# EAGLE library part ALCHITRY_ELEMENT (library alchitry_elements)
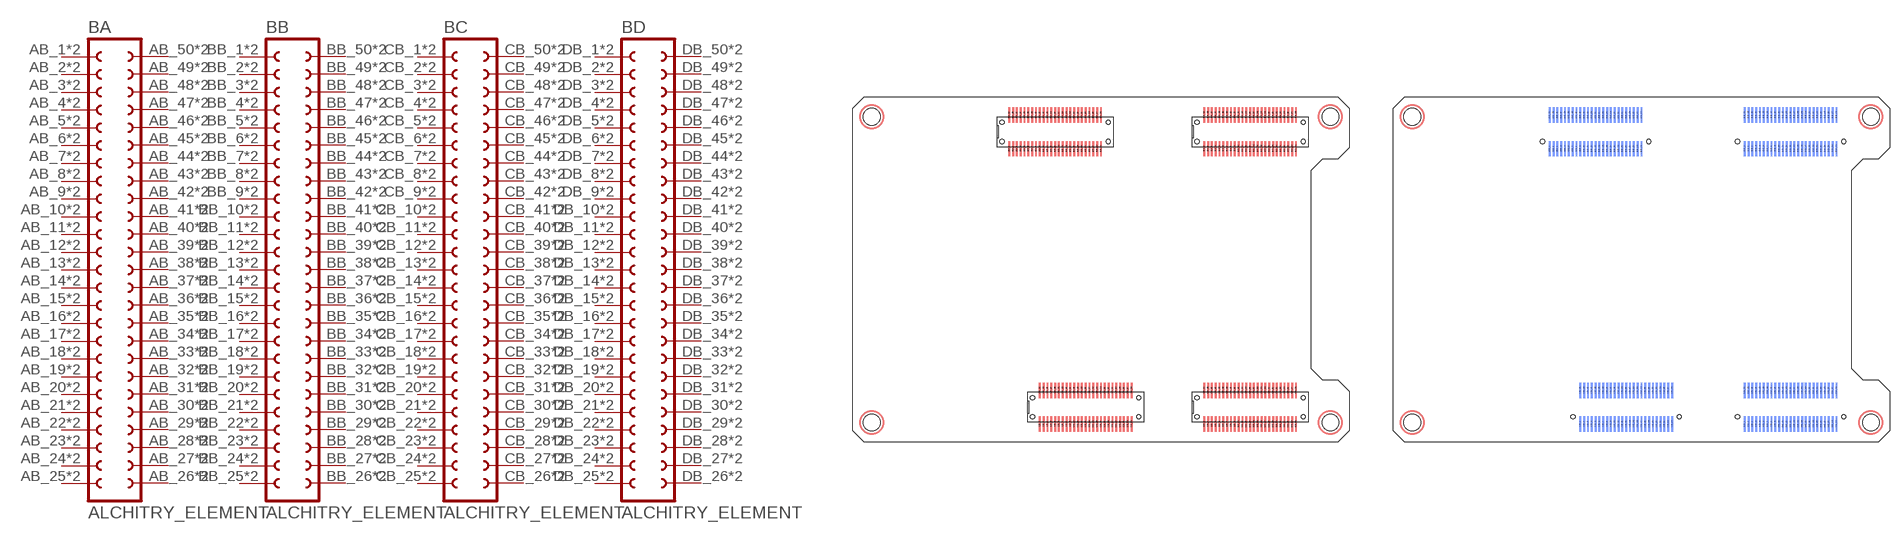
[diagram p0: symbol with the pads of ELEMENT; footprints ELEMENT, ELEMENT_NO_TOP]

Designator prefix B; gates A=FE25-2 B=FE25-2 C=FE25-2 D=FE25-2

## ALCHITRY_ELEMENT  [ELEMENT]
AB_1  A:1  pas
AB_2  A:2  pas
AB_3  A:3  pas
AB_4  A:4  pas
AB_5  A:5  pas
AB_6  A:6  pas
AB_7  A:7  pas
AB_8  A:8  pas
AB_9  A:9  pas
AB_10  A:10  pas
AB_11  A:11  pas
AB_12  A:12  pas
AB_13  A:13  pas
AB_14  A:14  pas
AB_15  A:15  pas
AB_16  A:16  pas
AB_17  A:17  pas
AB_18  A:18  pas
AB_19  A:19  pas
AB_20  A:20  pas
AB_21  A:21  pas
AB_22  A:22  pas
AB_23  A:23  pas
AB_24  A:24  pas
AB_25  A:25  pas
AB_26  A:26  pas
AB_27  A:27  pas
AB_28  A:28  pas
AB_29  A:29  pas
AB_30  A:30  pas
AB_31  A:31  pas
AB_32  A:32  pas
AB_33  A:33  pas
AB_34  A:34  pas
AB_35  A:35  pas
AB_36  A:36  pas
AB_37  A:37  pas
AB_38  A:38  pas
AB_39  A:39  pas
AB_40  A:40  pas
AB_41  A:41  pas
AB_42  A:42  pas
AB_43  A:43  pas
AB_44  A:44  pas
AB_45  A:45  pas
AB_46  A:46  pas
AB_47  A:47  pas
AB_48  A:48  pas
AB_49  A:49  pas
AB_50  A:50  pas
AT_1  A:1  pas
AT_2  A:2  pas
AT_3  A:3  pas
AT_4  A:4  pas
AT_5  A:5  pas
AT_6  A:6  pas
AT_7  A:7  pas
AT_8  A:8  pas
AT_9  A:9  pas
AT_10  A:10  pas
AT_11  A:11  pas
AT_12  A:12  pas
AT_13  A:13  pas
AT_14  A:14  pas
AT_15  A:15  pas
AT_16  A:16  pas
AT_17  A:17  pas
AT_18  A:18  pas
AT_19  A:19  pas
AT_20  A:20  pas
AT_21  A:21  pas
AT_22  A:22  pas
AT_23  A:23  pas
AT_24  A:24  pas
AT_25  A:25  pas
AT_26  A:26  pas
AT_27  A:27  pas
AT_28  A:28  pas
AT_29  A:29  pas
AT_30  A:30  pas
AT_31  A:31  pas
AT_32  A:32  pas
AT_33  A:33  pas
AT_34  A:34  pas
AT_35  A:35  pas
AT_36  A:36  pas
AT_37  A:37  pas
AT_38  A:38  pas
AT_39  A:39  pas
AT_40  A:40  pas
AT_41  A:41  pas
AT_42  A:42  pas
AT_43  A:43  pas
AT_44  A:44  pas
AT_45  A:45  pas
AT_46  A:46  pas
AT_47  A:47  pas
AT_48  A:48  pas
AT_49  A:49  pas
AT_50  A:50  pas
BB_1  B:1  pas
BB_2  B:2  pas
BB_3  B:3  pas
BB_4  B:4  pas
BB_5  B:5  pas
BB_6  B:6  pas
BB_7  B:7  pas
BB_8  B:8  pas
BB_9  B:9  pas
BB_10  B:10  pas
BB_11  B:11  pas
BB_12  B:12  pas
BB_13  B:13  pas
BB_14  B:14  pas
BB_15  B:15  pas
BB_16  B:16  pas
BB_17  B:17  pas
BB_18  B:18  pas
BB_19  B:19  pas
BB_20  B:20  pas
BB_21  B:21  pas
BB_22  B:22  pas
BB_23  B:23  pas
BB_24  B:24  pas
BB_25  B:25  pas
BB_26  B:26  pas
BB_27  B:27  pas
BB_28  B:28  pas
BB_29  B:29  pas
BB_30  B:30  pas
BB_31  B:31  pas
BB_32  B:32  pas
BB_33  B:33  pas
BB_34  B:34  pas
BB_35  B:35  pas
BB_36  B:36  pas
BB_37  B:37  pas
BB_38  B:38  pas
BB_39  B:39  pas
BB_40  B:40  pas
BB_41  B:41  pas
BB_42  B:42  pas
BB_43  B:43  pas
BB_44  B:44  pas
BB_45  B:45  pas
BB_46  B:46  pas
BB_47  B:47  pas
BB_48  B:48  pas
BB_49  B:49  pas
BB_50  B:50  pas
BT_1  B:1  pas
BT_2  B:2  pas
BT_3  B:3  pas
BT_4  B:4  pas
BT_5  B:5  pas
BT_6  B:6  pas
BT_7  B:7  pas
BT_8  B:8  pas
BT_9  B:9  pas
BT_10  B:10  pas
BT_11  B:11  pas
BT_12  B:12  pas
BT_13  B:13  pas
BT_14  B:14  pas
BT_15  B:15  pas
BT_16  B:16  pas
BT_17  B:17  pas
BT_18  B:18  pas
BT_19  B:19  pas
BT_20  B:20  pas
BT_21  B:21  pas
BT_22  B:22  pas
BT_23  B:23  pas
BT_24  B:24  pas
BT_25  B:25  pas
BT_26  B:26  pas
BT_27  B:27  pas
BT_28  B:28  pas
BT_29  B:29  pas
BT_30  B:30  pas
BT_31  B:31  pas
BT_32  B:32  pas
BT_33  B:33  pas
BT_34  B:34  pas
BT_35  B:35  pas
BT_36  B:36  pas
BT_37  B:37  pas
BT_38  B:38  pas
BT_39  B:39  pas
BT_40  B:40  pas
BT_41  B:41  pas
BT_42  B:42  pas
BT_43  B:43  pas
BT_44  B:44  pas
BT_45  B:45  pas
BT_46  B:46  pas
BT_47  B:47  pas
BT_48  B:48  pas
BT_49  B:49  pas
BT_50  B:50  pas
CB_1  C:1  pas
CB_2  C:2  pas
CB_3  C:3  pas
CB_4  C:4  pas
CB_5  C:5  pas
CB_6  C:6  pas
CB_7  C:7  pas
CB_8  C:8  pas
CB_9  C:9  pas
CB_10  C:10  pas
CB_11  C:11  pas
CB_12  C:12  pas
CB_13  C:13  pas
CB_14  C:14  pas
CB_15  C:15  pas
CB_16  C:16  pas
CB_17  C:17  pas
CB_18  C:18  pas
CB_19  C:19  pas
CB_20  C:20  pas
CB_21  C:21  pas
CB_22  C:22  pas
CB_23  C:23  pas
CB_24  C:24  pas
CB_25  C:25  pas
CB_26  C:26  pas
CB_27  C:27  pas
CB_28  C:28  pas
CB_29  C:29  pas
CB_30  C:30  pas
CB_31  C:31  pas
CB_32  C:32  pas
CB_33  C:33  pas
CB_34  C:34  pas
CB_35  C:35  pas
CB_36  C:36  pas
CB_37  C:37  pas
CB_38  C:38  pas
CB_39  C:39  pas
CB_40  C:40  pas
CB_41  C:41  pas
CB_42  C:42  pas
CB_43  C:43  pas
CB_44  C:44  pas
CB_45  C:45  pas
CB_46  C:46  pas
CB_47  C:47  pas
CB_48  C:48  pas
CB_49  C:49  pas
CB_50  C:50  pas
CT_1  C:1  pas
CT_2  C:2  pas
CT_3  C:3  pas
CT_4  C:4  pas
CT_5  C:5  pas
CT_6  C:6  pas
CT_7  C:7  pas
CT_8  C:8  pas
CT_9  C:9  pas
CT_10  C:10  pas
CT_11  C:11  pas
CT_12  C:12  pas
CT_13  C:13  pas
CT_14  C:14  pas
CT_15  C:15  pas
CT_16  C:16  pas
CT_17  C:17  pas
CT_18  C:18  pas
CT_19  C:19  pas
CT_20  C:20  pas
CT_21  C:21  pas
CT_22  C:22  pas
CT_23  C:23  pas
CT_24  C:24  pas
CT_25  C:25  pas
CT_26  C:26  pas
CT_27  C:27  pas
CT_28  C:28  pas
CT_29  C:29  pas
CT_30  C:30  pas
CT_31  C:31  pas
CT_32  C:32  pas
CT_33  C:33  pas
CT_34  C:34  pas
CT_35  C:35  pas
CT_36  C:36  pas
CT_37  C:37  pas
CT_38  C:38  pas
CT_39  C:39  pas
CT_40  C:40  pas
CT_41  C:41  pas
CT_42  C:42  pas
CT_43  C:43  pas
CT_44  C:44  pas
CT_45  C:45  pas
CT_46  C:46  pas
CT_47  C:47  pas
CT_48  C:48  pas
CT_49  C:49  pas
CT_50  C:50  pas
DB_1  D:1  pas
DB_2  D:2  pas
DB_3  D:3  pas
DB_4  D:4  pas
DB_5  D:5  pas
DB_6  D:6  pas
DB_7  D:7  pas
DB_8  D:8  pas
DB_9  D:9  pas
DB_10  D:10  pas
DB_11  D:11  pas
DB_12  D:12  pas
DB_13  D:13  pas
DB_14  D:14  pas
DB_15  D:15  pas
DB_16  D:16  pas
DB_17  D:17  pas
DB_18  D:18  pas
DB_19  D:19  pas
DB_20  D:20  pas
DB_21  D:21  pas
DB_22  D:22  pas
DB_23  D:23  pas
DB_24  D:24  pas
DB_25  D:25  pas
DB_26  D:26  pas
DB_27  D:27  pas
DB_28  D:28  pas
DB_29  D:29  pas
DB_30  D:30  pas
DB_31  D:31  pas
DB_32  D:32  pas
DB_33  D:33  pas
DB_34  D:34  pas
DB_35  D:35  pas
DB_36  D:36  pas
DB_37  D:37  pas
DB_38  D:38  pas
DB_39  D:39  pas
DB_40  D:40  pas
DB_41  D:41  pas
DB_42  D:42  pas
DB_43  D:43  pas
DB_44  D:44  pas
DB_45  D:45  pas
DB_46  D:46  pas
DB_47  D:47  pas
DB_48  D:48  pas
DB_49  D:49  pas
DB_50  D:50  pas
DT_1  D:1  pas
DT_2  D:2  pas
DT_3  D:3  pas
DT_4  D:4  pas
DT_5  D:5  pas
DT_6  D:6  pas
DT_7  D:7  pas
DT_8  D:8  pas
DT_9  D:9  pas
DT_10  D:10  pas
DT_11  D:11  pas
DT_12  D:12  pas
DT_13  D:13  pas
DT_14  D:14  pas
DT_15  D:15  pas
DT_16  D:16  pas
DT_17  D:17  pas
DT_18  D:18  pas
DT_19  D:19  pas
DT_20  D:20  pas
DT_21  D:21  pas
DT_22  D:22  pas
DT_23  D:23  pas
DT_24  D:24  pas
DT_25  D:25  pas
DT_26  D:26  pas
DT_27  D:27  pas
DT_28  D:28  pas
DT_29  D:29  pas
DT_30  D:30  pas
DT_31  D:31  pas
DT_32  D:32  pas
DT_33  D:33  pas
DT_34  D:34  pas
DT_35  D:35  pas
DT_36  D:36  pas
DT_37  D:37  pas
DT_38  D:38  pas
DT_39  D:39  pas
DT_40  D:40  pas
DT_41  D:41  pas
DT_42  D:42  pas
DT_43  D:43  pas
DT_44  D:44  pas
DT_45  D:45  pas
DT_46  D:46  pas
DT_47  D:47  pas
DT_48  D:48  pas
DT_49  D:49  pas
DT_50  D:50  pas

## ALCHITRY_ELEMENTNT  [ELEMENT_NO_TOP]
AB_1  A:1  pas
AB_2  A:2  pas
AB_3  A:3  pas
AB_4  A:4  pas
AB_5  A:5  pas
AB_6  A:6  pas
AB_7  A:7  pas
AB_8  A:8  pas
AB_9  A:9  pas
AB_10  A:10  pas
AB_11  A:11  pas
AB_12  A:12  pas
AB_13  A:13  pas
AB_14  A:14  pas
AB_15  A:15  pas
AB_16  A:16  pas
AB_17  A:17  pas
AB_18  A:18  pas
AB_19  A:19  pas
AB_20  A:20  pas
AB_21  A:21  pas
AB_22  A:22  pas
AB_23  A:23  pas
AB_24  A:24  pas
AB_25  A:25  pas
AB_26  A:26  pas
AB_27  A:27  pas
AB_28  A:28  pas
AB_29  A:29  pas
AB_30  A:30  pas
AB_31  A:31  pas
AB_32  A:32  pas
AB_33  A:33  pas
AB_34  A:34  pas
AB_35  A:35  pas
AB_36  A:36  pas
AB_37  A:37  pas
AB_38  A:38  pas
AB_39  A:39  pas
AB_40  A:40  pas
AB_41  A:41  pas
AB_42  A:42  pas
AB_43  A:43  pas
AB_44  A:44  pas
AB_45  A:45  pas
AB_46  A:46  pas
AB_47  A:47  pas
AB_48  A:48  pas
AB_49  A:49  pas
AB_50  A:50  pas
BB_1  B:1  pas
BB_2  B:2  pas
BB_3  B:3  pas
BB_4  B:4  pas
BB_5  B:5  pas
BB_6  B:6  pas
BB_7  B:7  pas
BB_8  B:8  pas
BB_9  B:9  pas
BB_10  B:10  pas
BB_11  B:11  pas
BB_12  B:12  pas
BB_13  B:13  pas
BB_14  B:14  pas
BB_15  B:15  pas
BB_16  B:16  pas
BB_17  B:17  pas
BB_18  B:18  pas
BB_19  B:19  pas
BB_20  B:20  pas
BB_21  B:21  pas
BB_22  B:22  pas
BB_23  B:23  pas
BB_24  B:24  pas
BB_25  B:25  pas
BB_26  B:26  pas
BB_27  B:27  pas
BB_28  B:28  pas
BB_29  B:29  pas
BB_30  B:30  pas
BB_31  B:31  pas
BB_32  B:32  pas
BB_33  B:33  pas
BB_34  B:34  pas
BB_35  B:35  pas
BB_36  B:36  pas
BB_37  B:37  pas
BB_38  B:38  pas
BB_39  B:39  pas
BB_40  B:40  pas
BB_41  B:41  pas
BB_42  B:42  pas
BB_43  B:43  pas
BB_44  B:44  pas
BB_45  B:45  pas
BB_46  B:46  pas
BB_47  B:47  pas
BB_48  B:48  pas
BB_49  B:49  pas
BB_50  B:50  pas
CB_1  C:1  pas
CB_2  C:2  pas
CB_3  C:3  pas
CB_4  C:4  pas
CB_5  C:5  pas
CB_6  C:6  pas
CB_7  C:7  pas
CB_8  C:8  pas
CB_9  C:9  pas
CB_10  C:10  pas
CB_11  C:11  pas
CB_12  C:12  pas
CB_13  C:13  pas
CB_14  C:14  pas
CB_15  C:15  pas
CB_16  C:16  pas
CB_17  C:17  pas
CB_18  C:18  pas
CB_19  C:19  pas
CB_20  C:20  pas
CB_21  C:21  pas
CB_22  C:22  pas
CB_23  C:23  pas
CB_24  C:24  pas
CB_25  C:25  pas
CB_26  C:26  pas
CB_27  C:27  pas
CB_28  C:28  pas
CB_29  C:29  pas
CB_30  C:30  pas
CB_31  C:31  pas
CB_32  C:32  pas
CB_33  C:33  pas
CB_34  C:34  pas
CB_35  C:35  pas
CB_36  C:36  pas
CB_37  C:37  pas
CB_38  C:38  pas
CB_39  C:39  pas
CB_40  C:40  pas
CB_41  C:41  pas
CB_42  C:42  pas
CB_43  C:43  pas
CB_44  C:44  pas
CB_45  C:45  pas
CB_46  C:46  pas
CB_47  C:47  pas
CB_48  C:48  pas
CB_49  C:49  pas
CB_50  C:50  pas
DB_1  D:1  pas
DB_2  D:2  pas
DB_3  D:3  pas
DB_4  D:4  pas
DB_5  D:5  pas
DB_6  D:6  pas
DB_7  D:7  pas
DB_8  D:8  pas
DB_9  D:9  pas
DB_10  D:10  pas
DB_11  D:11  pas
DB_12  D:12  pas
DB_13  D:13  pas
DB_14  D:14  pas
DB_15  D:15  pas
DB_16  D:16  pas
DB_17  D:17  pas
DB_18  D:18  pas
DB_19  D:19  pas
DB_20  D:20  pas
DB_21  D:21  pas
DB_22  D:22  pas
DB_23  D:23  pas
DB_24  D:24  pas
DB_25  D:25  pas
DB_26  D:26  pas
DB_27  D:27  pas
DB_28  D:28  pas
DB_29  D:29  pas
DB_30  D:30  pas
DB_31  D:31  pas
DB_32  D:32  pas
DB_33  D:33  pas
DB_34  D:34  pas
DB_35  D:35  pas
DB_36  D:36  pas
DB_37  D:37  pas
DB_38  D:38  pas
DB_39  D:39  pas
DB_40  D:40  pas
DB_41  D:41  pas
DB_42  D:42  pas
DB_43  D:43  pas
DB_44  D:44  pas
DB_45  D:45  pas
DB_46  D:46  pas
DB_47  D:47  pas
DB_48  D:48  pas
DB_49  D:49  pas
DB_50  D:50  pas

## Footprint ELEMENT (pad centres in mm)
smd 0.25 x 2 bottom: AB_1 20.5,38.3; AB_2 21,38.3; AB_3 21.5,38.3; AB_4 22,38.3; AB_5 22.5,38.3; AB_6 23,38.3; AB_7 23.5,38.3; AB_8 24,38.3; AB_9 24.5,38.3; AB_10 25,38.3; AB_11 25.5,38.3; AB_12 26,38.3; AB_13 26.5,38.3; AB_14 27,38.3; AB_15 27.5,38.3; AB_16 28,38.3; AB_17 28.5,38.3; AB_18 29,38.3; AB_19 29.5,38.3; AB_20 30,38.3; AB_21 30.5,38.3; AB_22 31,38.3; AB_23 31.5,38.3; AB_24 32,38.3; AB_25 32.5,38.3; AB_26 32.5,42.7; AB_27 32,42.7; AB_28 31.5,42.7; AB_29 31,42.7; AB_30 30.5,42.7; AB_31 30,42.7; AB_32 29.5,42.7; AB_33 29,42.7; AB_34 28.5,42.7; AB_35 28,42.7; AB_36 27.5,42.7; AB_37 27,42.7; AB_38 26.5,42.7; AB_39 26,42.7; AB_40 25.5,42.7; AB_41 25,42.7; AB_42 24.5,42.7; AB_43 24,42.7; AB_44 23.5,42.7; AB_45 23,42.7; AB_46 22.5,42.7; AB_47 22,42.7; AB_48 21.5,42.7; AB_49 21,42.7; AB_50 20.5,42.7; BB_1 46,38.3; BB_2 46.5,38.3; BB_3 47,38.3; BB_4 47.5,38.3; BB_5 48,38.3; BB_6 48.5,38.3; BB_7 49,38.3; BB_8 49.5,38.3; BB_9 50,38.3; BB_10 50.5,38.3; BB_11 51,38.3; BB_12 51.5,38.3; BB_13 52,38.3; BB_14 52.5,38.3; BB_15 53,38.3; BB_16 53.5,38.3; BB_17 54,38.3; BB_18 54.5,38.3; BB_19 55,38.3; BB_20 55.5,38.3; BB_21 56,38.3; BB_22 56.5,38.3; BB_23 57,38.3; BB_24 57.5,38.3; BB_25 58,38.3; BB_26 58,42.7; BB_27 57.5,42.7; BB_28 57,42.7; BB_29 56.5,42.7; BB_30 56,42.7; BB_31 55.5,42.7; BB_32 55,42.7; BB_33 54.5,42.7; BB_34 54,42.7; BB_35 53.5,42.7; BB_36 53,42.7; BB_37 52.5,42.7; BB_38 52,42.7; BB_39 51.5,42.7; BB_40 51,42.7; BB_41 50.5,42.7; BB_42 50,42.7; BB_43 49.5,42.7; BB_44 49,42.7; BB_45 48.5,42.7; BB_46 48,42.7; BB_47 47.5,42.7; BB_48 47,42.7; BB_49 46.5,42.7; BB_50 46,42.7; CB_1 24.5,2.3; CB_2 25,2.3; CB_3 25.5,2.3; CB_4 26,2.3; CB_5 26.5,2.3; CB_6 27,2.3; CB_7 27.5,2.3; CB_8 28,2.3; CB_9 28.5,2.3; CB_10 29,2.3; CB_11 29.5,2.3; CB_12 30,2.3; CB_13 30.5,2.3; CB_14 31,2.3; CB_15 31.5,2.3; CB_16 32,2.3; CB_17 32.5,2.3; CB_18 33,2.3; CB_19 33.5,2.3; CB_20 34,2.3; CB_21 34.5,2.3; CB_22 35,2.3; CB_23 35.5,2.3; CB_24 36,2.3; CB_25 36.5,2.3; CB_26 36.5,6.7; CB_27 36,6.7; CB_28 35.5,6.7; CB_29 35,6.7; CB_30 34.5,6.7; CB_31 34,6.7; CB_32 33.5,6.7; CB_33 33,6.7; CB_34 32.5,6.7; CB_35 32,6.7; CB_36 31.5,6.7; CB_37 31,6.7; CB_38 30.5,6.7; CB_39 30,6.7; CB_40 29.5,6.7; CB_41 29,6.7; CB_42 28.5,6.7; CB_43 28,6.7; CB_44 27.5,6.7; CB_45 27,6.7; CB_46 26.5,6.7; CB_47 26,6.7; CB_48 25.5,6.7; CB_49 25,6.7; CB_50 24.5,6.7; DB_1 46,2.3; DB_2 46.5,2.3; DB_3 47,2.3; DB_4 47.5,2.3; DB_5 48,2.3; DB_6 48.5,2.3; DB_7 49,2.3; DB_8 49.5,2.3; DB_9 50,2.3; DB_10 50.5,2.3; DB_11 51,2.3; DB_12 51.5,2.3; DB_13 52,2.3; DB_14 52.5,2.3; DB_15 53,2.3; DB_16 53.5,2.3; DB_17 54,2.3; DB_18 54.5,2.3; DB_19 55,2.3; DB_20 55.5,2.3; DB_21 56,2.3; DB_22 56.5,2.3; DB_23 57,2.3; DB_24 57.5,2.3; DB_25 58,2.3; DB_26 58,6.7; DB_27 57.5,6.7; DB_28 57,6.7; DB_29 56.5,6.7; DB_30 56,6.7; DB_31 55.5,6.7; DB_32 55,6.7; DB_33 54.5,6.7; DB_34 54,6.7; DB_35 53.5,6.7; DB_36 53,6.7; DB_37 52.5,6.7; DB_38 52,6.7; DB_39 51.5,6.7; DB_40 51,6.7; DB_41 50.5,6.7; DB_42 50,6.7; DB_43 49.5,6.7; DB_44 49,6.7; DB_45 48.5,6.7; DB_46 48,6.7; DB_47 47.5,6.7; DB_48 47,6.7; DB_49 46.5,6.7; DB_50 46,6.7
smd 0.25 x 2: AT_1 20.5,38.3; AT_2 21,38.3; AT_3 21.5,38.3; AT_4 22,38.3; AT_5 22.5,38.3; AT_6 23,38.3; AT_7 23.5,38.3; AT_8 24,38.3; AT_9 24.5,38.3; AT_10 25,38.3; AT_11 25.5,38.3; AT_12 26,38.3; AT_13 26.5,38.3; AT_14 27,38.3; AT_15 27.5,38.3; AT_16 28,38.3; AT_17 28.5,38.3; AT_18 29,38.3; AT_19 29.5,38.3; AT_20 30,38.3; AT_21 30.5,38.3; AT_22 31,38.3; AT_23 31.5,38.3; AT_24 32,38.3; AT_25 32.5,38.3; AT_26 32.5,42.7; AT_27 32,42.7; AT_28 31.5,42.7; AT_29 31,42.7; AT_30 30.5,42.7; AT_31 30,42.7; AT_32 29.5,42.7; AT_33 29,42.7; AT_34 28.5,42.7; AT_35 28,42.7; AT_36 27.5,42.7; AT_37 27,42.7; AT_38 26.5,42.7; AT_39 26,42.7; AT_40 25.5,42.7; AT_41 25,42.7; AT_42 24.5,42.7; AT_43 24,42.7; AT_44 23.5,42.7; AT_45 23,42.7; AT_46 22.5,42.7; AT_47 22,42.7; AT_48 21.5,42.7; AT_49 21,42.7; AT_50 20.5,42.7; BT_1 46,38.3; BT_2 46.5,38.3; BT_3 47,38.3; BT_4 47.5,38.3; BT_5 48,38.3; BT_6 48.5,38.3; BT_7 49,38.3; BT_8 49.5,38.3; BT_9 50,38.3; BT_10 50.5,38.3; BT_11 51,38.3; BT_12 51.5,38.3; BT_13 52,38.3; BT_14 52.5,38.3; BT_15 53,38.3; BT_16 53.5,38.3; BT_17 54,38.3; BT_18 54.5,38.3; BT_19 55,38.3; BT_20 55.5,38.3; BT_21 56,38.3; BT_22 56.5,38.3; BT_23 57,38.3; BT_24 57.5,38.3; BT_25 58,38.3; BT_26 58,42.7; BT_27 57.5,42.7; BT_28 57,42.7; BT_29 56.5,42.7; BT_30 56,42.7; BT_31 55.5,42.7; BT_32 55,42.7; BT_33 54.5,42.7; BT_34 54,42.7; BT_35 53.5,42.7; BT_36 53,42.7; BT_37 52.5,42.7; BT_38 52,42.7; BT_39 51.5,42.7; BT_40 51,42.7; BT_41 50.5,42.7; BT_42 50,42.7; BT_43 49.5,42.7; BT_44 49,42.7; BT_45 48.5,42.7; BT_46 48,42.7; BT_47 47.5,42.7; BT_48 47,42.7; BT_49 46.5,42.7; BT_50 46,42.7; CT_1 24.5,2.3; CT_2 25,2.3; CT_3 25.5,2.3; CT_4 26,2.3; CT_5 26.5,2.3; CT_6 27,2.3; CT_7 27.5,2.3; CT_8 28,2.3; CT_9 28.5,2.3; CT_10 29,2.3; CT_11 29.5,2.3; CT_12 30,2.3; CT_13 30.5,2.3; CT_14 31,2.3; CT_15 31.5,2.3; CT_16 32,2.3; CT_17 32.5,2.3; CT_18 33,2.3; CT_19 33.5,2.3; CT_20 34,2.3; CT_21 34.5,2.3; CT_22 35,2.3; CT_23 35.5,2.3; CT_24 36,2.3; CT_25 36.5,2.3; CT_26 36.5,6.7; CT_27 36,6.7; CT_28 35.5,6.7; CT_29 35,6.7; CT_30 34.5,6.7; CT_31 34,6.7; CT_32 33.5,6.7; CT_33 33,6.7; CT_34 32.5,6.7; CT_35 32,6.7; CT_36 31.5,6.7; CT_37 31,6.7; CT_38 30.5,6.7; CT_39 30,6.7; CT_40 29.5,6.7; CT_41 29,6.7; CT_42 28.5,6.7; CT_43 28,6.7; CT_44 27.5,6.7; CT_45 27,6.7; CT_46 26.5,6.7; CT_47 26,6.7; CT_48 25.5,6.7; CT_49 25,6.7; CT_50 24.5,6.7; DT_1 46,2.3; DT_2 46.5,2.3; DT_3 47,2.3; DT_4 47.5,2.3; DT_5 48,2.3; DT_6 48.5,2.3; DT_7 49,2.3; DT_8 49.5,2.3; DT_9 50,2.3; DT_10 50.5,2.3; DT_11 51,2.3; DT_12 51.5,2.3; DT_13 52,2.3; DT_14 52.5,2.3; DT_15 53,2.3; DT_16 53.5,2.3; DT_17 54,2.3; DT_18 54.5,2.3; DT_19 55,2.3; DT_20 55.5,2.3; DT_21 56,2.3; DT_22 56.5,2.3; DT_23 57,2.3; DT_24 57.5,2.3; DT_25 58,2.3; DT_26 58,6.7; DT_27 57.5,6.7; DT_28 57,6.7; DT_29 56.5,6.7; DT_30 56,6.7; DT_31 55.5,6.7; DT_32 55,6.7; DT_33 54.5,6.7; DT_34 54,6.7; DT_35 53.5,6.7; DT_36 53,6.7; DT_37 52.5,6.7; DT_38 52,6.7; DT_39 51.5,6.7; DT_40 51,6.7; DT_41 50.5,6.7; DT_42 50,6.7; DT_43 49.5,6.7; DT_44 49,6.7; DT_45 48.5,6.7; DT_46 48,6.7; DT_47 47.5,6.7; DT_48 47,6.7; DT_49 46.5,6.7; DT_50 46,6.7
hole 2.2 at 2.5,2.5
hole 2.2 at 2.5,42.5
hole 2.2 at 62.5,42.5
hole 2.2 at 62.5,2.5
hole 0.55 at 58.95,39.25
hole 0.55 at 45.05,39.25
hole 0.55 at 33.45,39.25
hole 0.55 at 19.55,39.25
hole 0.55 at 58.95,3.25
hole 0.55 at 45.05,3.25
hole 0.55 at 37.45,3.25
hole 0.55 at 23.55,3.25
hole 0.55 at 58.95,5.75
hole 0.55 at 45.05,5.75
hole 0.55 at 37.45,5.75
hole 0.55 at 23.55,5.75
hole 0.55 at 58.95,41.75
hole 0.55 at 45.05,41.75
hole 0.55 at 33.45,41.75
hole 0.55 at 19.55,41.75

## Footprint ELEMENT_NO_TOP (pad centres in mm)
smd 0.25 x 2 bottom: AB_1 20.5,38.3; AB_2 21,38.3; AB_3 21.5,38.3; AB_4 22,38.3; AB_5 22.5,38.3; AB_6 23,38.3; AB_7 23.5,38.3; AB_8 24,38.3; AB_9 24.5,38.3; AB_10 25,38.3; AB_11 25.5,38.3; AB_12 26,38.3; AB_13 26.5,38.3; AB_14 27,38.3; AB_15 27.5,38.3; AB_16 28,38.3; AB_17 28.5,38.3; AB_18 29,38.3; AB_19 29.5,38.3; AB_20 30,38.3; AB_21 30.5,38.3; AB_22 31,38.3; AB_23 31.5,38.3; AB_24 32,38.3; AB_25 32.5,38.3; AB_26 32.5,42.7; AB_27 32,42.7; AB_28 31.5,42.7; AB_29 31,42.7; AB_30 30.5,42.7; AB_31 30,42.7; AB_32 29.5,42.7; AB_33 29,42.7; AB_34 28.5,42.7; AB_35 28,42.7; AB_36 27.5,42.7; AB_37 27,42.7; AB_38 26.5,42.7; AB_39 26,42.7; AB_40 25.5,42.7; AB_41 25,42.7; AB_42 24.5,42.7; AB_43 24,42.7; AB_44 23.5,42.7; AB_45 23,42.7; AB_46 22.5,42.7; AB_47 22,42.7; AB_48 21.5,42.7; AB_49 21,42.7; AB_50 20.5,42.7; BB_1 46,38.3; BB_2 46.5,38.3; BB_3 47,38.3; BB_4 47.5,38.3; BB_5 48,38.3; BB_6 48.5,38.3; BB_7 49,38.3; BB_8 49.5,38.3; BB_9 50,38.3; BB_10 50.5,38.3; BB_11 51,38.3; BB_12 51.5,38.3; BB_13 52,38.3; BB_14 52.5,38.3; BB_15 53,38.3; BB_16 53.5,38.3; BB_17 54,38.3; BB_18 54.5,38.3; BB_19 55,38.3; BB_20 55.5,38.3; BB_21 56,38.3; BB_22 56.5,38.3; BB_23 57,38.3; BB_24 57.5,38.3; BB_25 58,38.3; BB_26 58,42.7; BB_27 57.5,42.7; BB_28 57,42.7; BB_29 56.5,42.7; BB_30 56,42.7; BB_31 55.5,42.7; BB_32 55,42.7; BB_33 54.5,42.7; BB_34 54,42.7; BB_35 53.5,42.7; BB_36 53,42.7; BB_37 52.5,42.7; BB_38 52,42.7; BB_39 51.5,42.7; BB_40 51,42.7; BB_41 50.5,42.7; BB_42 50,42.7; BB_43 49.5,42.7; BB_44 49,42.7; BB_45 48.5,42.7; BB_46 48,42.7; BB_47 47.5,42.7; BB_48 47,42.7; BB_49 46.5,42.7; BB_50 46,42.7; CB_1 24.5,2.3; CB_2 25,2.3; CB_3 25.5,2.3; CB_4 26,2.3; CB_5 26.5,2.3; CB_6 27,2.3; CB_7 27.5,2.3; CB_8 28,2.3; CB_9 28.5,2.3; CB_10 29,2.3; CB_11 29.5,2.3; CB_12 30,2.3; CB_13 30.5,2.3; CB_14 31,2.3; CB_15 31.5,2.3; CB_16 32,2.3; CB_17 32.5,2.3; CB_18 33,2.3; CB_19 33.5,2.3; CB_20 34,2.3; CB_21 34.5,2.3; CB_22 35,2.3; CB_23 35.5,2.3; CB_24 36,2.3; CB_25 36.5,2.3; CB_26 36.5,6.7; CB_27 36,6.7; CB_28 35.5,6.7; CB_29 35,6.7; CB_30 34.5,6.7; CB_31 34,6.7; CB_32 33.5,6.7; CB_33 33,6.7; CB_34 32.5,6.7; CB_35 32,6.7; CB_36 31.5,6.7; CB_37 31,6.7; CB_38 30.5,6.7; CB_39 30,6.7; CB_40 29.5,6.7; CB_41 29,6.7; CB_42 28.5,6.7; CB_43 28,6.7; CB_44 27.5,6.7; CB_45 27,6.7; CB_46 26.5,6.7; CB_47 26,6.7; CB_48 25.5,6.7; CB_49 25,6.7; CB_50 24.5,6.7; DB_1 46,2.3; DB_2 46.5,2.3; DB_3 47,2.3; DB_4 47.5,2.3; DB_5 48,2.3; DB_6 48.5,2.3; DB_7 49,2.3; DB_8 49.5,2.3; DB_9 50,2.3; DB_10 50.5,2.3; DB_11 51,2.3; DB_12 51.5,2.3; DB_13 52,2.3; DB_14 52.5,2.3; DB_15 53,2.3; DB_16 53.5,2.3; DB_17 54,2.3; DB_18 54.5,2.3; DB_19 55,2.3; DB_20 55.5,2.3; DB_21 56,2.3; DB_22 56.5,2.3; DB_23 57,2.3; DB_24 57.5,2.3; DB_25 58,2.3; DB_26 58,6.7; DB_27 57.5,6.7; DB_28 57,6.7; DB_29 56.5,6.7; DB_30 56,6.7; DB_31 55.5,6.7; DB_32 55,6.7; DB_33 54.5,6.7; DB_34 54,6.7; DB_35 53.5,6.7; DB_36 53,6.7; DB_37 52.5,6.7; DB_38 52,6.7; DB_39 51.5,6.7; DB_40 51,6.7; DB_41 50.5,6.7; DB_42 50,6.7; DB_43 49.5,6.7; DB_44 49,6.7; DB_45 48.5,6.7; DB_46 48,6.7; DB_47 47.5,6.7; DB_48 47,6.7; DB_49 46.5,6.7; DB_50 46,6.7
hole 2.2 at 2.5,2.5
hole 2.2 at 2.5,42.5
hole 2.2 at 62.5,42.5
hole 2.2 at 62.5,2.5
hole 0.55 at 58.95,39.25
hole 0.55 at 45.05,39.25
hole 0.55 at 33.45,39.25
hole 0.55 at 19.55,39.25
hole 0.55 at 58.95,3.25
hole 0.55 at 45.05,3.25
hole 0.55 at 37.45,3.25
hole 0.55 at 23.55,3.25